# Altium footprint library PcbLib1.PcbLib: 1 footprints
Each footprint in its own frame and in the unit in brackets; x right, y up, seen from the top. Pads: shape width x height; smd on the part's side, far side on the other; paste and mask are expansions set on the pad; w line width, h text height; cw(c..) or ccw(c..) is an arc to the next point about the centre after c.
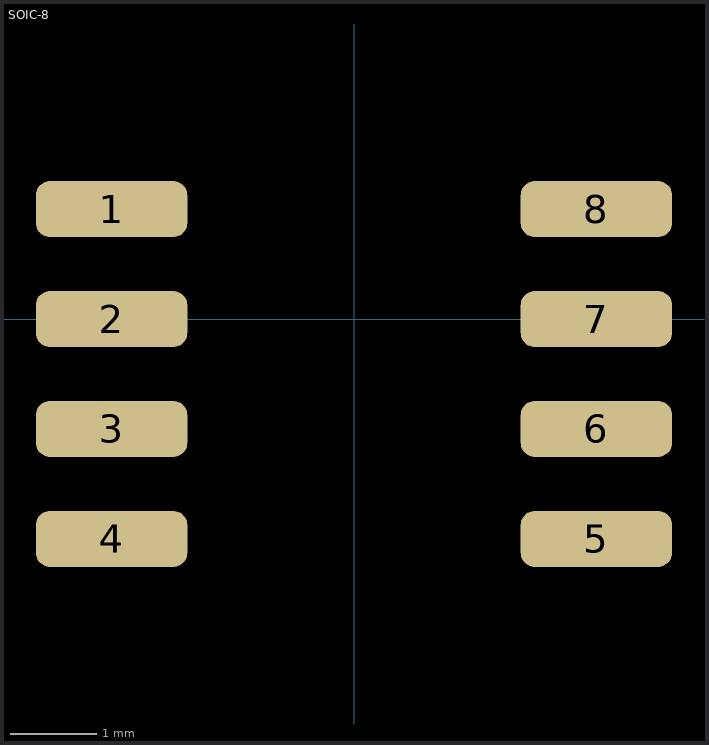
[diagram p0: the footprint, top view; thin cyan lines are the x and y axes]

## SOIC-8 [mm]
pads (8):
  rrect50% 1.75x0.65 smd: 1(-2.8,1.27) 2(-2.8,0) 3(-2.8,-1.27) 4(-2.8,-2.54) 5(2.8,-2.54) 6(2.8,-1.27) 7(2.8,0) 8(2.8,1.27)